# EAGLE library part FFC6 (library balto)
Flat Flex Cable 6 pins
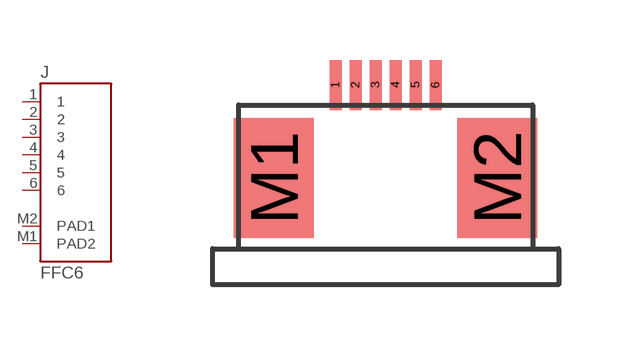
[diagram p67: symbol with the pads of ER-CON06*-1; footprint ER-CON06*-1]

Designator prefix J

## FFC6  [ER-CON06*-1]
1  1
2  2
3  3
4  4
5  5
6  6
M1  PAD2
M2  PAD1

## Footprint ER-CON06*-1 (pad centres in mm)
EastRising 6pin bottom contact FFC connector
smd 0.3 x 1.25: 1 -1.25,0; 2 -0.75,0; 3 -0.25,0; 4 0.25,0; 5 0.75,0; 6 1.25,0
smd 2 x 3: M1 -2.79,-2.325; M2 2.79,-2.325